# EAGLE library part INA199 (library Deegou_IC)
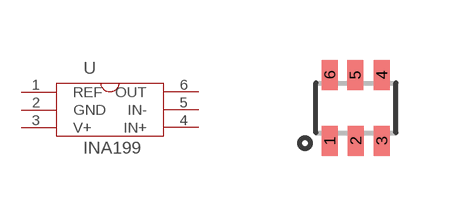
[diagram p111: symbol with the pads of SC70-6L; footprint SC70-6L]

Designator prefix U

## INA199  [SC70-6L]
1  REF
2  GND
3  V+
4  IN+
5  IN-
6  OUT

## Footprint SC70-6L (pad centres in mm)
smd 0.4 x 0.75: 1 -0.65,-0.825; 2 0,-0.825; 3 0.65,-0.825; 4 0.65,0.825; 5 -0.015,0.825; 6 -0.65,0.825